# Altium footprint library 511100850.PcbLib: 1 footprints
Each footprint in its own frame and in the unit in brackets; x right, y up, seen from the top. Pads: shape width x height; smd on the part's side, far side on the other; paste and mask are expansions set on the pad; w line width, h text height; cw(c..) or ccw(c..) is an arc to the next point about the centre after c.
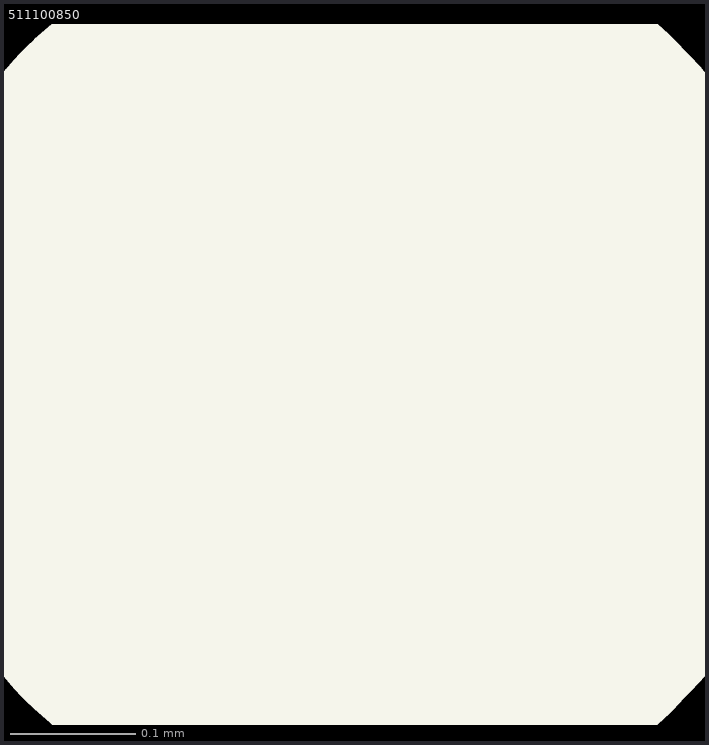
[diagram p0: the footprint, top view; thin cyan lines are the x and y axes]

## 511100850 [mm]
Top Overlay:
  circle w0.381: c-3.429,3.048 r0.18
3D body "511100850.stp": height 0, standoff -7, extent -4.1,-2.4 4.1,2.4